# Altium integrated library XH414HG-IV01E.IntLib: 1 symbol
Pins are listed as number, name and electrical type; pins without a type are passive.

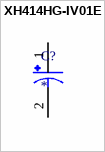
[diagram p0: symbol XH414HG-IV01E]

## XH414HG-IV01E
designator C?
80 mF (EDLC) Supercapacitor 3.3 V Coin, Wide and Corner Terminals - -; MF: Seiko Instruments; MP: XH414HG-IV01E; Value: *; Check_prices: https://www.snapeda.com/parts/XH414HG-IV01E/Seiko+Instruments/view-part/?ref=eda; SnapEDA_Link: https://www.snapeda.com/parts/XH414HG-IV01E/Seiko+Instruments/view-part/?ref=snap; Availability: In Stock; Purchase-URL: https://pricing.snapeda.com/search/part/XH414HG-IV01E/?ref=eda; Package: Coin Wide and Corner Terminals  Seiko; Price: None
footprint CAP_XH414HG-IV01E
pins: 1, 2